# EAGLE library part AD5940 (library ad5940)
AD5940 High Precision, Impedance, and Electrochemical Front End https://wiki.analog.com/resources/eval/user-guides/ad5940
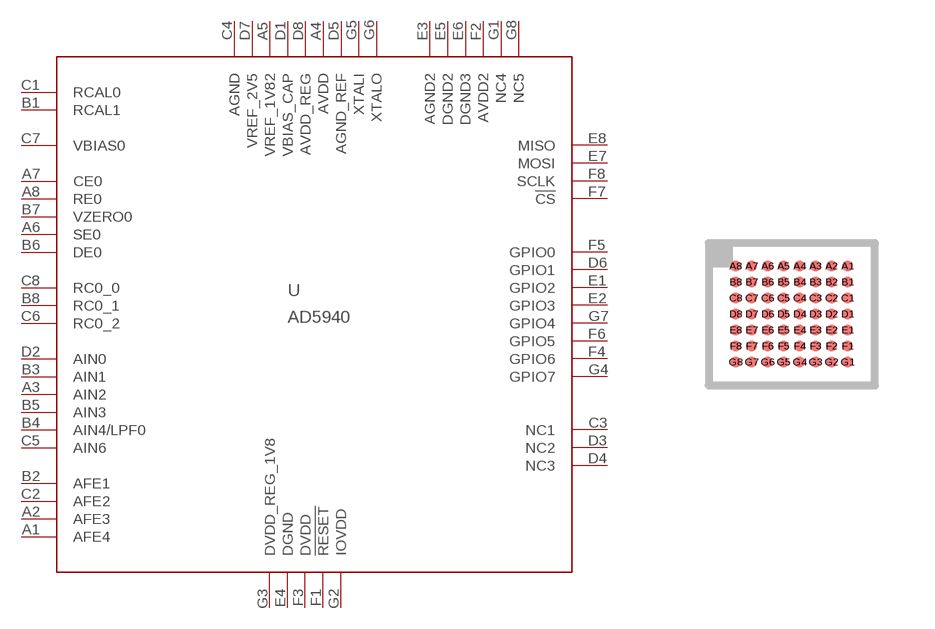
[diagram p0: symbol with the pads of WLCSP56; footprint WLCSP56]

Designator prefix -

## AD5940  [WLCSP56]
A1  AFE4
A2  AFE3
A3  AIN2
A4  AVDD  pwr
A5  VREF_1V82  pwr
A6  SE0  in
A7  CE0
A8  RE0
B1  RCAL1
B2  AFE1
B3  AIN1
B4  AIN4/LPF0
B5  AIN3
B6  DE0
B7  VZERO0
B8  RC0_1
C1  RCAL0
C2  AFE2
C3  NC1  nc
C4  AGND  pwr
C5  AIN6
C6  RC0_2
C7  VBIAS0
C8  RC0_0
D1  VBIAS_CAP  pwr
D2  AIN0
D3  NC2  nc
D4  NC3  nc
D5  AGND_REF  pwr
D6  GPIO1
D7  VREF_2V5  pwr
D8  AVDD_REG  pwr
E1  GPIO2
E2  GPIO3
E3  AGND2  pwr
E4  DGND  pwr
E5  DGND2  pwr
E6  DGND3  pwr
E7  MOSI
E8  MISO
F1  !RESET
F2  AVDD2  pwr
F3  DVDD  pwr
F4  GPIO6
F5  GPIO0
F6  GPIO5
F7  !CS
F8  SCLK
G1  NC4
G2  IOVDD  pwr
G3  DVDD_REG_1V8  pwr
G4  GPIO7
G5  XTALI
G6  XTALO
G7  GPIO4
G8  NC5

## Footprint WLCSP56 (pad centres in mm)
WLCSP56 package for AD5940
smd 0.28 x 0.28: A1 2.8,0; A2 2.4,0; A3 2,0; A4 1.6,0; A5 1.2,0; A6 0.8,0; A7 0.4,0; A8 0,0; B1 2.8,-0.4; B2 2.4,-0.4; B3 2,-0.4; B4 1.6,-0.4; B5 1.2,-0.4; B6 0.8,-0.4; B7 0.4,-0.4; B8 0,-0.4; C1 2.8,-0.8; C2 2.4,-0.8; C3 2,-0.8; C4 1.6,-0.8; C5 1.2,-0.8; C6 0.8,-0.8; C7 0.4,-0.8; C8 0,-0.8; D1 2.8,-1.2; D2 2.4,-1.2; D3 2,-1.2; D4 1.6,-1.2; D5 1.2,-1.2; D6 0.8,-1.2; D7 0.4,-1.2; D8 0,-1.2; E1 2.8,-1.6; E2 2.4,-1.6; E3 2,-1.6; E4 1.6,-1.6; E5 1.2,-1.6; E6 0.8,-1.6; E7 0.4,-1.6; E8 0,-1.6; F1 2.8,-2; F2 2.4,-2; F3 2,-2; F4 1.6,-2; F5 1.2,-2; F6 0.8,-2; F7 0.4,-2; F8 0,-2; G1 2.8,-2.4; G2 2.4,-2.4; G3 2,-2.4; G4 1.6,-2.4; G5 1.2,-2.4; G6 0.8,-2.4; G7 0.4,-2.4; G8 0,-2.4